# Altium footprint library FPGA_board.PcbLib: 25 footprints (part 2 of 2)
Each footprint in its own frame and in the unit in brackets; x right, y up, seen from the top. Pads: shape width x height; smd on the part's side, far side on the other; paste and mask are expansions set on the pad; w line width, h text height; cw(c..) or ccw(c..) is an arc to the next point about the centre after c.
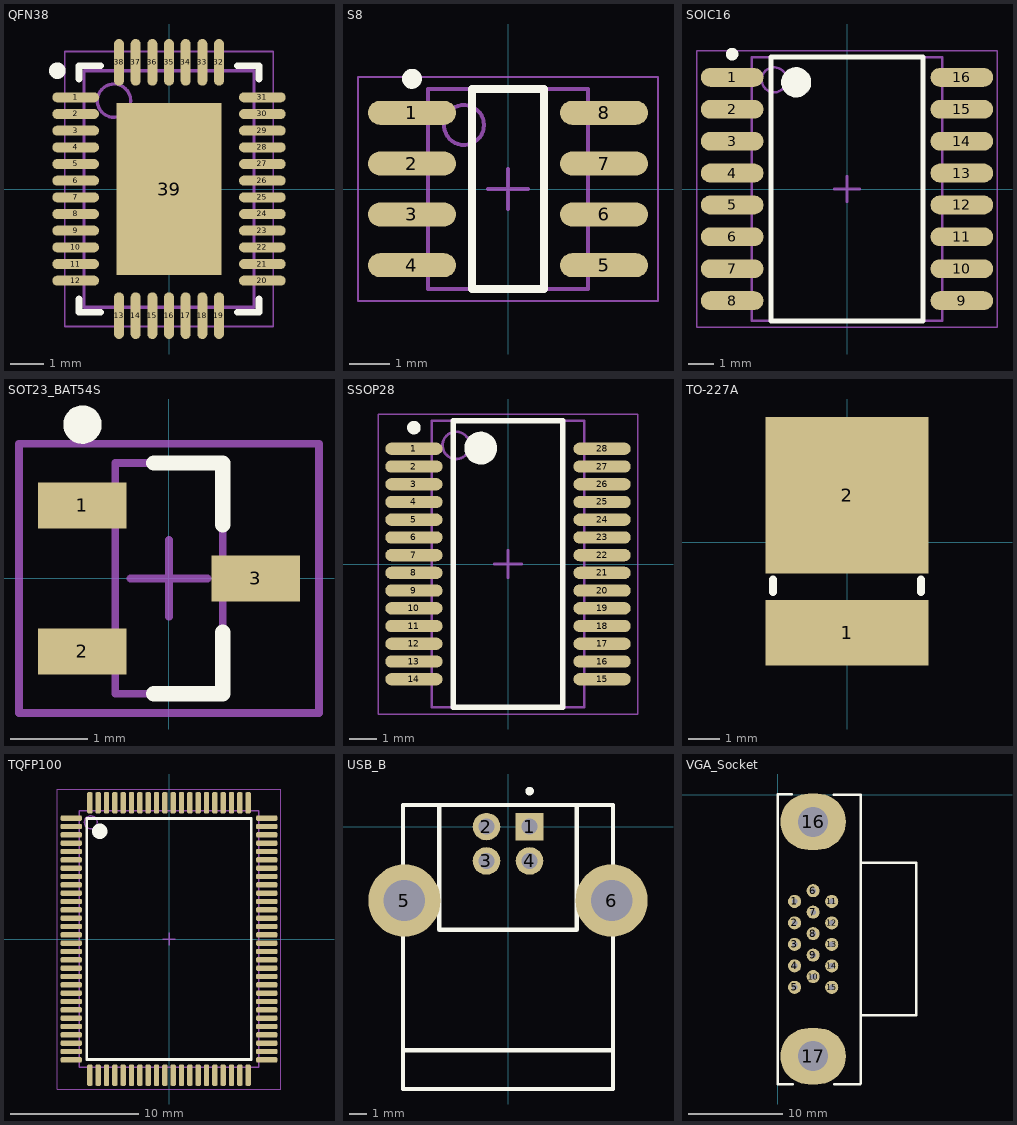
[diagram p1: the footprints below, top view; thin cyan lines are the x and y axes]

## QFN38 [mm] "QFN, 38-Leads, Body 7,00x5,00mm, Pitch 0,50mm, Thermal Pad 5,15x3,15mm, IPC Medium Density"
height 0.8
pads (39):
  oval 1.4x0.3 smd: 1(-2.8,2.75) 2(-2.8,2.25) 3(-2.8,1.75) 4(-2.8,1.25) 5(-2.8,0.75) 6(-2.8,0.25) 7(-2.8,-0.25) 8(-2.8,-0.75) 9(-2.8,-1.25) 10(-2.8,-1.75) 11(-2.8,-2.25) 12(-2.8,-2.75) 20(2.8,-2.75) 21(2.8,-2.25) 22(2.8,-1.75) 23(2.8,-1.25) 24(2.8,-0.75) 25(2.8,-0.25) 26(2.8,0.25) 27(2.8,0.75) 28(2.8,1.25) 29(2.8,1.75) 30(2.8,2.25) 31(2.8,2.75)
  oval 0.3x1.4 smd: 13(-1.5,-3.8) 14(-1,-3.8) 15(-0.5,-3.8) 16(0,-3.8) 17(0.5,-3.8) 18(1,-3.8) 19(1.5,-3.8) 32(1.5,3.8) 33(1,3.8) 34(0.5,3.8) 35(0,3.8) 36(-0.5,3.8) 37(-1,3.8) 38(-1.5,3.8)
  rect 3.15x5.15 smd: 39(0,0)
Top Overlay:
  circle w0.25: c-3.35,3.55 r0.125
  lines w0.2: -2.7,-3.3 -2.7,-3.7 -2.05,-3.7 ; -2.7,3.3 -2.7,3.7 -2.05,3.7 ; 2.05,-3.7 2.7,-3.7 2.7,-3.3 ; 2.05,3.7 2.7,3.7 2.7,3.3
Mechanical 13:
  circle w0.1: c-1.65,2.65 r0.5
  lines w0.1: -2.55,-3.55 2.55,-3.55 2.55,3.55 -2.55,3.55 -2.55,-3.55
Mechanical 15:
  lines w0.05: -3.125,-4.125 3.125,-4.125 3.125,4.125 -3.125,4.125 -3.125,-4.125
  lines w0.1: -0.5,0 0.5,0 ; 0,-0.5 0,0.5
3D body: height 0.8, standoff 0, extent -2.55,-3.55 2.55,3.55

## S8 [mm] "SOIC, 8-Leads, Body 4,90x3,90mm, Pitch 1,27mm, IPC Medium Density"
height 1.76
pads (8):
  oval 2.2x0.6 smd: 1(-2.4,1.905) 2(-2.4,0.635) 3(-2.4,-0.635) 4(-2.4,-1.905) 5(2.4,-1.905) 6(2.4,-0.635) 7(2.4,0.635) 8(2.4,1.905)
Top Overlay:
  circle w0.25: c-2.4,2.755 r0.125
  lines w0.2: -0.9,-2.5 -0.9,2.5 0.9,2.5 0.9,-2.5 -0.9,-2.5
Mechanical 13:
  circle w0.1: c-1.1,1.6 r0.5
  lines w0.1: -2,-2.5 -2,2.5 2,2.5 2,-2.5 -2,-2.5
Mechanical 15:
  lines w0.05: -3.75,-2.8 -3.75,2.8 3.75,2.8 3.75,-2.8 -3.75,-2.8
  lines w0.1: -0.5,0 0.5,0 ; 0,-0.5 0,0.5
3D body: height 1.76, standoff 0.1, extent -2,-2.5 2,2.5

## SOIC16 [mm]
height 2.65
pads (16):
  oval 2.5x0.75 smd: 1(-4.575,4.445) 2(-4.575,3.175) 3(-4.575,1.905) 4(-4.575,0.635) 5(-4.575,-0.635) 6(-4.575,-1.905) 7(-4.575,-3.175) 8(-4.575,-4.445) 9(4.575,-4.445) 10(4.575,-3.175) 11(4.575,-1.905) 12(4.575,-0.635) 13(4.575,0.635) 14(4.575,1.905) 15(4.575,3.175) 16(4.575,4.445)
Top Overlay:
  circle w0.25: c-4.575,5.37 r0.125
  circle w0.6: c-2.025,4.25 r0.3
  lines w0.2: -3.025,-5.25 -3.025,5.25 3.025,5.25 3.025,-5.25 -3.025,-5.25
Mechanical 13:
  circle w0.1: c-2.9,4.35 r0.5
  lines w0.1: -3.8,-5.25 -3.8,5.25 3.8,5.25 3.8,-5.25 -3.8,-5.25
Mechanical 15:
  lines w0.05: -5.975,-5.5 -5.975,5.5 5.975,5.5 5.975,-5.5 -5.975,-5.5
  lines w0.1: -0.5,0 0.5,0 ; 0,-0.5 0,0.5
3D body: height 2.65, standoff 0.1, extent -3.8,-5.25 3.8,5.25

## SOT23_BAT54S [mm]
height 1.1
pads (3):
  rect 1.15x0.6 smd: 1(-1.125,0.95) 2(-1.125,-0.95) 3(1.125,0)
Top Overlay:
  circle w0.25: c-1.125,2 r0.125
  lines w0.2: -0.2,-1.5 0.7,-1.5 0.7,-0.7 ; -0.2,1.5 0.7,1.5 0.7,0.7
Mechanical 13:
  lines w0.1: -0.7,-1.5 0.7,-1.5 0.7,1.5 -0.7,1.5 -0.7,-1.5
Mechanical 15:
  lines w0.1: -0.5,0 0.5,0 ; 0,-0.5 0,0.5 ; -1.95,-1.75 1.95,-1.75 1.95,1.75 -1.95,1.75 -1.95,-1.75
3D body: height 1.1, standoff 0, extent -0.7,-1.5 0.7,1.5

## SSOP28 [mm] "SOP, 28-Leads, Body 10,20x5,30mm, Pitch 0,65mm, IPC Medium Density"
height 2
pads (28):
  oval 2.1x0.45 smd: 1(-3.45,4.225) 2(-3.45,3.575) 3(-3.45,2.925) 4(-3.45,2.275) 5(-3.45,1.625) 6(-3.45,0.975) 7(-3.45,0.325) 8(-3.45,-0.325) 9(-3.45,-0.975) 10(-3.45,-1.625) 11(-3.45,-2.275) 12(-3.45,-2.925) 13(-3.45,-3.575) 14(-3.45,-4.225) 15(3.45,-4.225) 16(3.45,-3.575) 17(3.45,-2.925) 18(3.45,-2.275) 19(3.45,-1.625) 20(3.45,-0.975) 21(3.45,-0.325) 22(3.45,0.325) 23(3.45,0.975) 24(3.45,1.625) 25(3.45,2.275) 26(3.45,2.925) 27(3.45,3.575) 28(3.45,4.225)
Top Overlay:
  circle w0.25: c-3.45,5 r0.125
  circle w0.6: c-1,4.25 r0.3
  lines w0.2: -2,-5.25 -2,5.25 2,5.25 2,-5.25 -2,-5.25
Mechanical 13:
  circle w0.1: c-1.9,4.35 r0.5
  lines w0.1: -2.8,-5.25 -2.8,5.25 2.8,5.25 2.8,-5.25 -2.8,-5.25
Mechanical 15:
  lines w0.05: -4.75,-5.5 -4.75,5.5 4.75,5.5 4.75,-5.5 -4.75,-5.5
  lines w0.1: -0.5,0 0.5,0 ; 0,-0.5 0,0.5
3D body: height 2, standoff 0.25, extent -2.8,-5.25 2.8,5.25

## TO-227A [mm]
height 1.2
pads (2):
  rect 5.2x2.1 smd: 1(0,-2.9)
  rect 5.2x5 smd: 2(0,1.5)
Top Overlay:
  lines w0.254: -2.375,-1.6 -2.375,-1.2 ; 2.375,-1.6 2.375,-1.2
3D body: height 1.2, standoff 0, extent -2.702,-4.052 2.702,4.102

## TQFP100 [mm]
height 1.6
pads (100):
  rrect50% 1.65x0.42 smd: 1(-7.625,9.425) 2(-7.625,8.775) 3(-7.625,8.125) 4(-7.625,7.475) 5(-7.625,6.825) 6(-7.625,6.175) 7(-7.625,5.525) 8(-7.625,4.875) 9(-7.625,4.225) 10(-7.625,3.575) 11(-7.625,2.925) 12(-7.625,2.275) 13(-7.625,1.625) 14(-7.625,0.975) 15(-7.625,0.325) 16(-7.625,-0.325) 17(-7.625,-0.975) 18(-7.625,-1.625) 19(-7.625,-2.275) 20(-7.625,-2.925) 21(-7.625,-3.575) 22(-7.625,-4.225) 23(-7.625,-4.875) 24(-7.625,-5.525) 25(-7.625,-6.175) 26(-7.625,-6.825) 27(-7.625,-7.475) 28(-7.625,-8.125) 29(-7.625,-8.775) 30(-7.625,-9.425) 51(7.625,-9.425) 52(7.625,-8.775) 53(7.625,-8.125) 54(7.625,-7.475) 55(7.625,-6.825) 56(7.625,-6.175) 57(7.625,-5.525) 58(7.625,-4.875) 59(7.625,-4.225) 60(7.625,-3.575) 61(7.625,-2.925) 62(7.625,-2.275) 63(7.625,-1.625) 64(7.625,-0.975) 65(7.625,-0.325) 66(7.625,0.325) 67(7.625,0.975) 68(7.625,1.625) 69(7.625,2.275) 70(7.625,2.925) 71(7.625,3.575) 72(7.625,4.225) 73(7.625,4.875) 74(7.625,5.525) 75(7.625,6.175) 76(7.625,6.825) 77(7.625,7.475) 78(7.625,8.125) 79(7.625,8.775) 80(7.625,9.425)
  rrect50% 0.42x1.65 smd: 31(-6.175,-10.625) 32(-5.525,-10.625) 33(-4.875,-10.625) 34(-4.225,-10.625) 35(-3.575,-10.625) 36(-2.925,-10.625) 37(-2.275,-10.625) 38(-1.625,-10.625) 39(-0.975,-10.625) 40(-0.325,-10.625) 41(0.325,-10.625) 42(0.975,-10.625) 43(1.625,-10.625) 44(2.275,-10.625) 45(2.925,-10.625) 46(3.575,-10.625) 47(4.225,-10.625) 48(4.875,-10.625) 49(5.525,-10.625) 50(6.175,-10.625) 81(6.175,10.625) 82(5.525,10.625) 83(4.875,10.625) 84(4.225,10.625) 85(3.575,10.625) 86(2.925,10.625) 87(2.275,10.625) 88(1.625,10.625) 89(0.975,10.625) 90(0.325,10.625) 91(-0.325,10.625) 92(-0.975,10.625) 93(-1.625,10.625) 94(-2.275,10.625) 95(-2.925,10.625) 96(-3.575,10.625) 97(-4.225,10.625) 98(-4.875,10.625) 99(-5.525,10.625) 100(-6.175,10.625)
Top Overlay:
  circle w0.6: c-5.4,8.4 r0.3
  lines w0.2: -6.4,-9.4 -6.4,9.4 6.4,9.4 6.4,-9.4 -6.4,-9.4
Mechanical 13:
  circle w0.1: c-6.1,9.1 r0.5
  lines w0.1: -7,-10 -7,10 7,10 7,-10 -7,-10
Mechanical 15:
  lines w0.05: -8.7,-11.7 -8.7,11.7 8.7,11.7 8.7,-11.7 -8.7,-11.7
  lines w0.1: -0.5,0 0.5,0 ; 0,-0.5 0,0.5
3D body: height 1.6, standoff 0.15, extent -7,-10 7,10

## USB_B [mm]
height 11
pads (6):
  rect 1.6x1.6 hole 0.95: 1(1.25,0)
  round 1.6 hole 0.95: 2(-1.25,0) 3(-1.25,-2) 4(1.25,-2)
  round 4.2 hole 2.4: 5(-6.02,-4.3) 6(6.02,-4.3)
Top Overlay:
  circle w0.25: c1.255,2.057 r0.125
  lines w0.254: -6.1,-13 6.1,-13 ; -4,1.25 -4,-6 4,-6 4,1.25 ; -6.1,-15.25 6.1,-15.25 6.1,1.25 -6.1,1.25 -6.1,-15.25
3D body: height 11, standoff 0, extent -6.227,-15.377 6.227,1.377

## VGA_Socket [mm]
pads (17):
  round 1.4 hole 0.6: 1(1.81,-11.392) 2(1.81,-13.682) 3(1.81,-15.972) 4(1.81,-18.262) 5(1.81,-20.552) 6(3.79,-10.248) 7(3.79,-12.538) 8(3.79,-14.827) 9(3.79,-17.117) 10(3.79,-19.407) 11(5.77,-11.392) 12(5.77,-13.682) 13(5.77,-15.972) 14(5.77,-18.262) 15(5.77,-20.552)
  oval 7x6 hole 3.2: 16(3.79,-2.905) 17(3.79,-27.895)
Top Overlay:
  lines w0.254: 0,-30.875 1.6,-30.875 ; 0,-30.8 0,0.025 1.525,0.025 ; 5.975,0 8.75,0 ; 6.05,-30.875 8.825,-30.875 ; 8.85,-30.8 8.85,0 ; 8.85,-23.55 14.8,-23.55 14.8,-7.25 8.85,-7.25
3D body: height 10.5, standoff 0, extent 8.851,-23.549 14.799,-7.251
3D body: height 8, standoff 0, extent 0,-24 9,-6.5
3D body: height 12.5, standoff 0, extent 7.5,-31.199 9,0
3D body: height 2, standoff 0, extent 0,-31.199 9,-24
3D body: height 8, standoff 0, extent 6,-31.199 9,0
3D body: height 2, standoff 0, extent 0,-6.699 9,0